# EAGLE library part DS1340 (library carrilib)
RTC w/ Trickle Charger Manufacturer: Maxim Part Number: DS1340
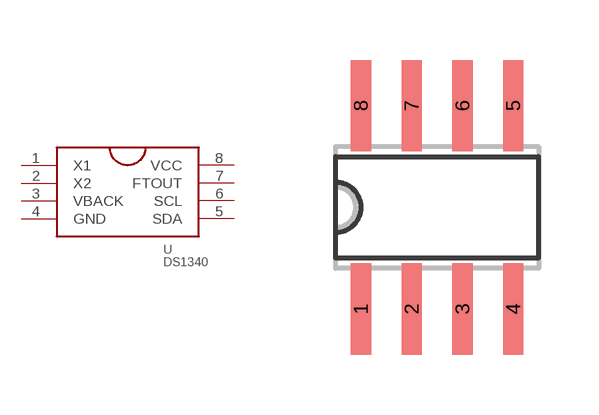
[diagram p13: symbol with the pads of SO08; footprint SO08]

Designator prefix -

## DS1340  [SO08]
1  X1
2  X2
3  VBACK
4  GND
5  SDA
6  SCL
7  FTOUT
8  VCC

## Footprint SO08 (pad centres in mm)
smd 0.508 x 2.286: 1 -1.905,-2.54; 2 -0.635,-2.54; 3 0.635,-2.54; 4 1.905,-2.54; 5 1.905,2.54; 6 0.635,2.54; 7 -0.635,2.54; 8 -1.905,2.54